# Altium schematic symbol library test.SchLib: 309 symbols (part 5 of 9)
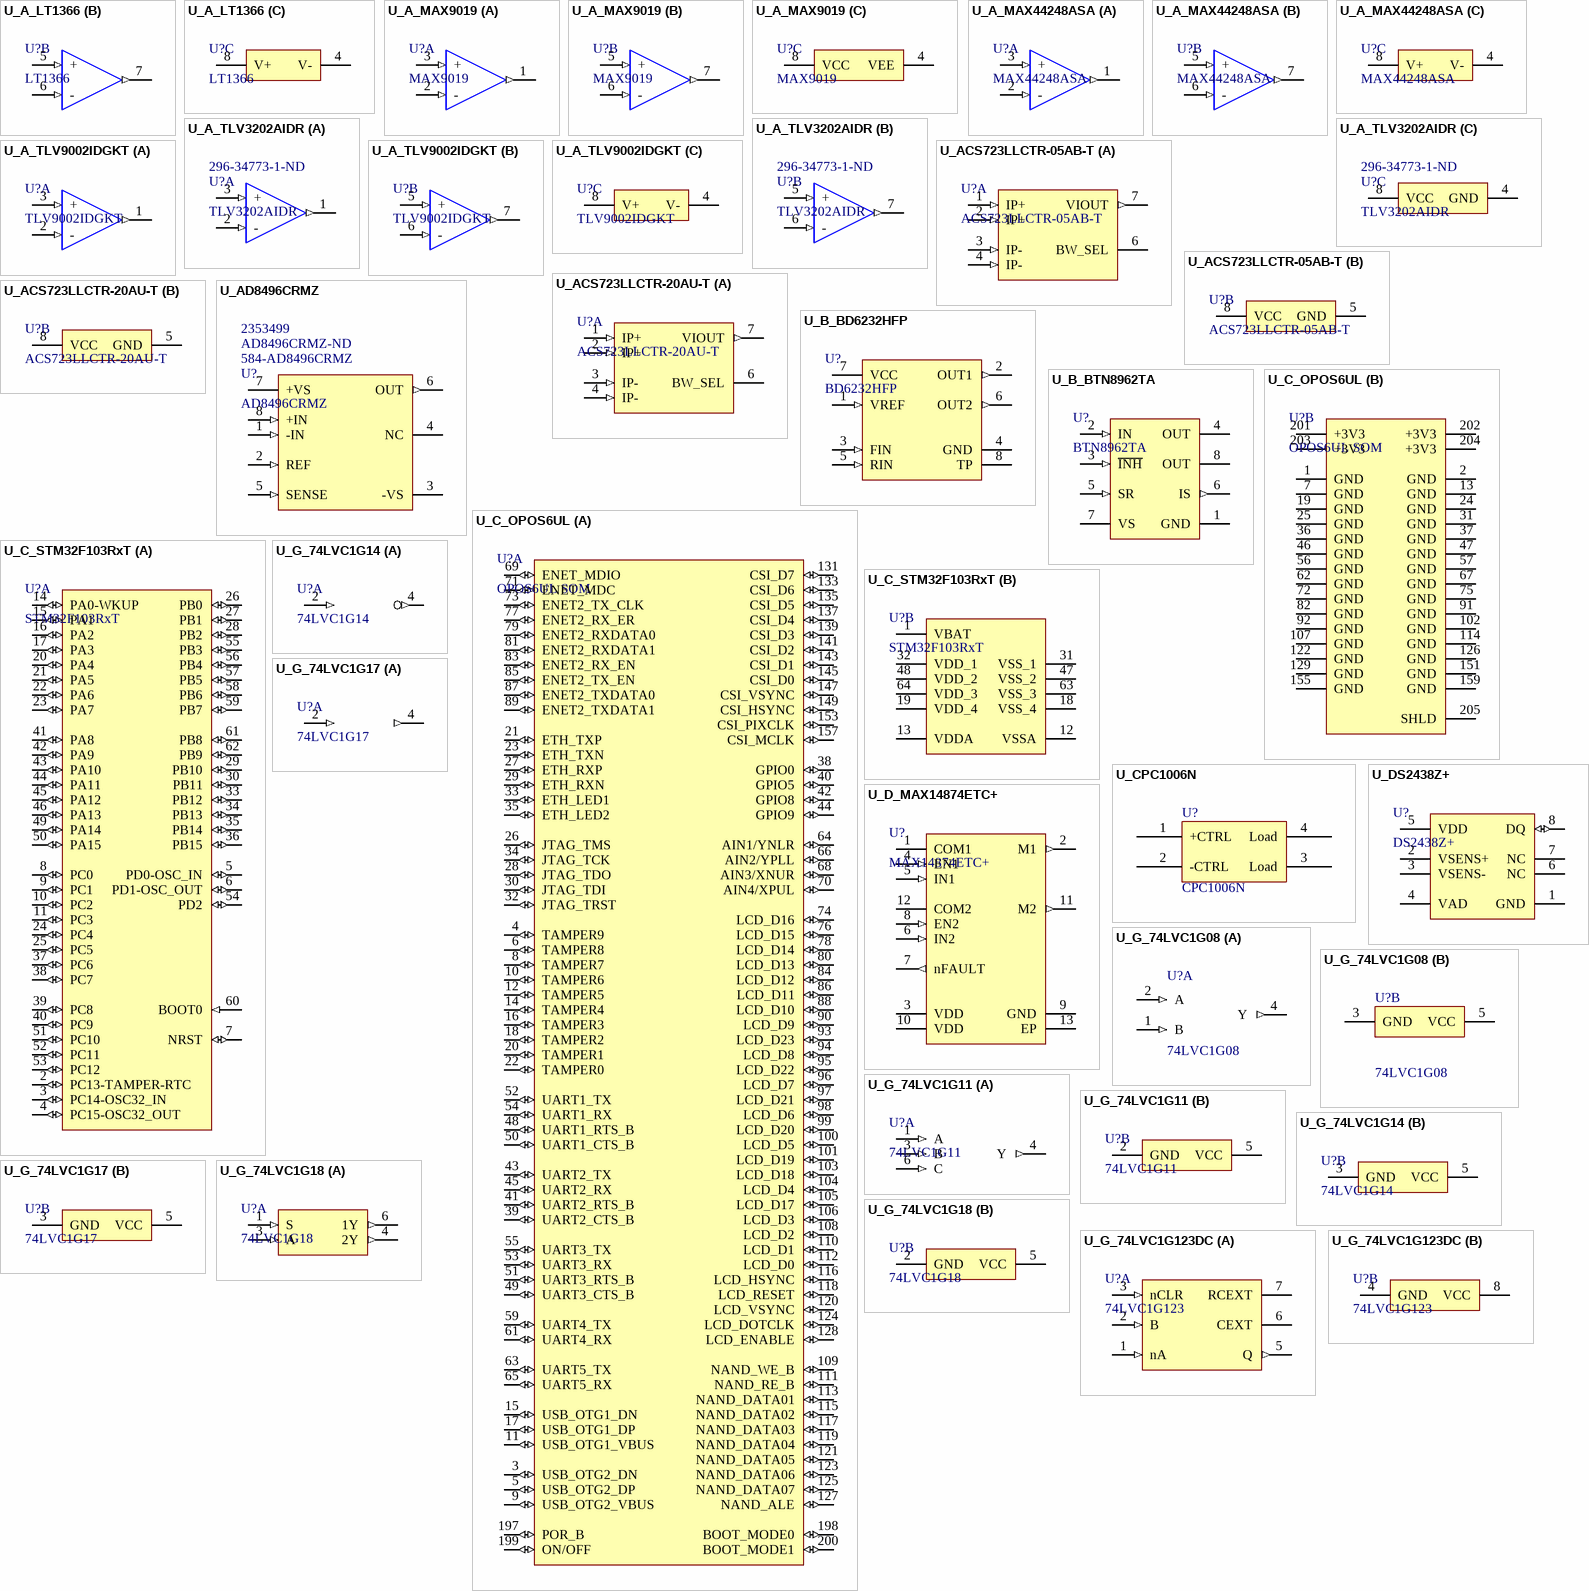
[diagram p12: symbols U_A_LT1366 to U_G_74LVC1G123DC]

## U_A_MAX9019
designator U?, comment MAX9019
IC COMPARATOR DUAL SOT23-8 MAX9019; Manufacturer: Maxim; Manufacturer Part Number: MAX9019EKA+T; Supplier 1: Digi-Key; Supplier Part Number 1: MAX9019EKA+TCT-ND; Case/Package: SOT-23-8; ComponentLink1URL: https://datasheet.ciiva.com/4463/max9015-max9020-109477-4463522.pdf; ComponentLink1Description: https://datasheet.ciiva.com/4463/max9015-max9020-109477-4463522.pdf; ComponentLink2URL: https://datasheet.ciiva.com/30481/0900766b81253439-30481618.pdf; ComponentLink2Description: https://datasheet.ciiva.com/30481/0900766b81253439-30481618.pdf; ComponentLink3URL: https://datasheet.ciiva.com/1828/max9015-max9020-1828112.pdf; ComponentLink3Description: https://datasheet.ciiva.com/1828/max9015-max9020-1828112.pdf; ComponentLink4URL: https://datasheet.ciiva.com/26859/max9019eka-t-26859996.pdf; ComponentLink4Description: https://datasheet.ciiva.com/26859/max9019eka-t-26859996.pdf; ComponentLink5URL: https://datasheet.ciiva.com/1828/max9015-max9020-1828111.pdf; ComponentLink5Description: https://datasheet.ciiva.com/1828/max9015-max9020-1828111.pdf; ComponentLink6URL: https://datasheet.ciiva.com/2970/max9015-max9020-2970974.pdf; ComponentLink6Description: https://datasheet.ciiva.com/2970/max9015-max9020-2970974.pdf; ComponentLink7URL: https://datasheet.ciiva.com/1828/max9015-max9020-1828113.pdf; ComponentLink7Description: https://datasheet.ciiva.com/1828/max9015-max9020-1828113.pdf; ComponentLink8URL: https://datasheet.ciiva.com/17397/max9015-max9020-17397095.pdf; ComponentLink8Description: https://datasheet.ciiva.com/17397/max9015-max9020-17397095.pdf
footprint SOT23-8 (TSOP, 8-Leads, Body 2.90x1.63mm, Pitch 0.65mm, IPC Medium Density)
part A pins: 1 (out), 2 - (in), 3 + (in)
part B pins: 5 + (in), 6 - (in), 7 1 (out)
part C pins: 4 VEE (power), 8 VCC (power)

## U_A_MAX44248ASA
designator U?, comment MAX44248ASA
IC OPAMP GP 1MHZ RRO 8SOIC; Manufacturer: Maxim; Manufacturer Part Number: MAX44248ASA+T; Common Mode Rejection Ratio: 126dB; Min Supply Voltage: 2.7V; Max Supply Voltage: 36V; Voltage Gain: 150dB; Number of Channels: 2; Output Current: 40mA; Slew Rate: 0.7V/µs; Nominal Supply Current: 90uA; Min Dual Supply Voltage: 1.35V; Max Dual Supply Voltage: 18V; Input Offset Voltage (Vos): 2uV; Input Bias Current: 150pA; Supplier Part Number 2: MAX44248ASA+TCT-ND; Stock 1: 2242; Pricing 1: 1=3.47000, 10=3.11300, 25=2.94320, 100=2.55080, 250=2.42000, 500=2.17144, 1000=1.83134 (USD); RoHS: Yes; Mount: Surface Mount; Case/Package: SOIC; Number of Pins: 8; Contact Plating: Tin; Min Operating Temperature: -40°C; Max Operating Temperature: 125°C; Gain Bandwidth Product: 1MHz; Packaging: Tape and Reel; Package Quantity: 2500; Operating Supply Current: 90uA; Number of Circuits: 2; Output Current per Channel: 40mA; Operating Supply Voltage: 18V; Radiation Hardening: No; ComponentLink1URL: https://datasheet.ciiva.com/13061/max44248-218146-13061234.pdf?src-supplier=Mouser; ComponentLink1Description: https://datasheet.ciiva.com/13061/max44248-218146-13061234.pdf?src-supplier=Mouser; Supplier 2: Digi-Key; Supplier 1: Safematic
footprint SO8 (SOIC8, SO8, PG-DSO8-44, R-PDSO8-G8)
part A pins: 1 (out), 2 - (in), 3 + (in)
part B pins: 5 + (in), 6 - (in), 7 1 (out)
part C pins: 4 V- (power), 8 V+ (power)

## U_A_TLV3202AIDR
designator U?, comment TLV3202AIDR  Supplier Part Number 1: 296-34773-1-ND
IC COMPARATOR RRI DUAL 8SOIC; Manufacturer: Texas Instruments; Max Supply Voltage: 5.5V; Min Supply Voltage: 2.7V; Number of Elements: 2; Propagation Delay: 50ns; Input Bias Current: 50pA; Input Offset Voltage (Vos): 5mV; Response Time: 0.047us; Quiescent Current: 50uA; Common Mode Rejection Ratio: 70dB; Max Supply Current: 40uA; Hysteresis: 1.2mV; Power Supply Rejection Ratio (PSRR): 85dB; Max Power Dissipation: 100mW; Tolerance: 1%; Manufacturer Part Number: TLV3202AIDR; Stock 1: 20111; Pricing 1: 1 = 1.52000, 10 = 1.36500, 100 = 1.09700, 500 = 0.90126, 1000 = 0.74675 (USD); RoHS: Yes; Mount: Surface Mount; Case/Package: SOIC; Number of Pins: 8; Contact Plating: Gold; Min Operating Temperature: -40°C; Max Operating Temperature: 125°C; Packaging: Tape and Reel; Package Quantity: 2500; Number of Channels: 2; Type: General Purpose; Nominal Supply Current: 50uA; Max Input Current: 50pA; Radiation Hardening: No; Lead Free: Lead Free; ComponentLink1URL: https://datasheet.ciiva.com/6624/tlv3202-6624219.pdf?src-supplier=Digi-Key; ComponentLink1Description: https://datasheet.ciiva.com/6624/tlv3202-6624219.pdf?src-supplier=Digi-Key; ComponentLink2URL: https://datasheet.ciiva.com/14391/tlv3202-14391915.pdf?src-supplier=Avnet; ComponentLink2Description: https://datasheet.ciiva.com/14391/tlv3202-14391915.pdf?src-supplier=Avnet; ComponentLink3URL: https://datasheet.ciiva.com/6624/tlv3202-6624221.pdf?src-supplier=Digi-Key; ComponentLink3Description: https://datasheet.ciiva.com/6624/tlv3202-6624221.pdf?src-supplier=Digi-Key; Manufacturer 2: Vishay BCcomponents; Manufacturer Part Number 2: NTCALUG02A103F800; Stock 2: 1556; Pricing 2: 1=2,55000, 5=2,41600, 10=2,07000, 25=1,65600, 50=1,51800, 100=1,38000, 500=1,20750, 1000=1,06950, 5000=1,00050 (USD); ComponentLink4URL: http://www.vishay.com/docs/48301/_capabilities_and_options_ntcalug_vmn-ms7447.pdf?src-supplier=Digi-Key; ComponentLink4Description: http://www.vishay.com/docs/48301/_capabilities_and_options_ntcalug_vmn-ms7447.pdf?src-supplier=Digi-Key; Supplier 1: Digi-Key
footprint SO8 (SOIC8, SO8, PG-DSO8-44, R-PDSO8-G8)
part A pins: 1 (out), 2 - (in), 3 + (in)
part B pins: 5 + (in), 6 - (in), 7 1 (out)
part C pins: 4 GND (power), 8 VCC (power)

## U_A_TLV9002IDGKT
designator U?, comment TLV9002IDGKT
TLV9002 Low-Power, Rail-to-Rail In and Out, 1-MHz Operational Amplifier; Manufacturer: Texas Instruments; Supplier 1: Digi-Key; Supplier Part Number 1: 296-49509-1-ND; Manufacturer Part Number: TLV9002IDGKT; ComponentLink1Description: http://www.ti.com/lit/ds/symlink/tlv9002.pdf; ComponentLink1URL: http://www.ti.com/lit/ds/symlink/tlv9002.pdf
footprint DGK (S-PDSO-G8) (TSOP, 8-Leads, Body 3.00x3.00mm, Pitch 0.65mm, IPC Medium Density)
part A pins: 1 (out), 2 - (in), 3 + (in)
part B pins: 5 + (in), 6 - (in), 7 1 (out)
part C pins: 4 V- (power), 8 V+ (power)

## U_ACS723LLCTR-05AB-T
designator U?, comment ACS723LLCTR-05AB-T
High Accuracy, Galvanically Isolated Current Sensor IC With Small Footprint SOIC8 Package; Manufacturer: Allegro MicroSystems; Number of Channels: 1; Frequency: 80kHz; Response Time: 5us; Max Supply Current: 14mA; Polarity: Bidirectional; Linearity: 1%; Accuracy: 3%; Current Sensing: 5A; Sensitivity: 400mV/A; Manufacturer Part Number: ACS723LLCTR-05AB-T; RoHS: Yes; Category: Current Sensors; Stock 1: 690; Pricing 1: 1=4.46000, 5=3.94000, 10=3.47900, 25=2.82280, 50=2.49480, 100=2.42900, 500=2.03516, 1000=1.90385 (USD); Mount: Surface Mount; Case/Package: SOIC; Number of Pins: 8; Min Operating Temperature: -40°C; Max Operating Temperature: 150°C; Packaging: Tape and Reel; RoHS Compliant: Yes; ComponentLink1URL: http://www.farnell.com/datasheets/2724286.pdf?src-supplier=Farnell; ComponentLink1Description: http://www.farnell.com/datasheets/2724286.pdf?src-supplier=Farnell; ComponentLink2URL: http://www.farnell.com/datasheets/2724286.pdf?src-supplier=Newark; ComponentLink2Description: http://www.farnell.com/datasheets/2724286.pdf?src-supplier=Newark; ComponentLink3URL: http://www.allegromicro.com/~/media/Files/Datasheets/ACS723-Datasheet.ashx?src-supplier=Digi-Key; ComponentLink3Description: http://www.allegromicro.com/~/media/Files/Datasheets/ACS723-Datasheet.ashx?src-supplier=Digi-Key; ComponentLink4URL: https://www.allegromicro.com/~/media/Files/Datasheets/ACS723-Datasheet.ashx?src-supplier=Digi-Key; ComponentLink4Description: https://www.allegromicro.com/~/media/Files/Datasheets/ACS723-Datasheet.ashx?src-supplier=Digi-Key; Supplier 1: Digi-Key; Supplier 3: Farnell; Pricing 3: 1=3.38000, 10=2.98000, 25=2.42000, 50=2.15000, 100=2.08000, 250=1.92000, 500=1.75000, 1000=1.63000 (GBP); Pricing 2: 2=5.91400, 20=4.62000, 100=3.22400, 200=3.06000, 500=2.69000 (USD); Supplier 2: RSComponents; Stock 2: 690; Supplier Part Number 1: 620-1641-1-ND; Supplier Part Number 3: 2991650; Supplier Part Number 2: 8660767
footprint SO8 (SOIC8, SO8, PG-DSO8-44, R-PDSO8-G8)
part A pins: 1 IP+ (in), 2 IP+ (in), 3 IP- (in), 4 IP- (in), 6 BW_SEL, 7 VIOUT (out)
part B pins: 5 GND (power), 8 VCC (power)

## U_ACS723LLCTR-20AU-T
designator U?, comment ACS723LLCTR-20AU-T
SENSOR CURRENT HALL 20A DC; Manufacturer: Allegro MicroSystems; Number of Channels: 1; Frequency: 80kHz; Response Time: 5us; Max Supply Current: 14mA; Polarity: Unidirectional; Linearity: 1%; Accuracy: 3%; Sensitivity: 200mV/A; Manufacturer Part Number: ACS723LLCTR-20AU-T; Stock 1: 20853; Pricing 1: 1=5.27000, 5=4.65400, 10=4.11000, 25=3.33480, 50=2.94700, 100=2.86940, 500=2.40406, 1000=2.24895 (USD); RoHS: Yes; Mount: Surface Mount; Case/Package: SOIC; Number of Pins: 8; Min Operating Temperature: -40°C; Max Operating Temperature: 150°C; Packaging: Tape and Reel; Current Sensing: 20A; ComponentLink1URL: http://www.allegromicro.com/~/media/Files/Datasheets/ACS723-Datasheet.ashx?src-supplier=Digi-Key; ComponentLink1Description: http://www.allegromicro.com/~/media/Files/Datasheets/ACS723-Datasheet.ashx?src-supplier=Digi-Key; ComponentLink2URL: https://www.allegromicro.com/~/media/Files/Datasheets/ACS723-Datasheet.ashx?src-supplier=Digi-Key; ComponentLink2Description: https://www.allegromicro.com/~/media/Files/Datasheets/ACS723-Datasheet.ashx?src-supplier=Digi-Key; Supplier 1: Digi-Key; Supplier 2: Farnell; Supplier Part Number 1: 620-1645-1-ND; Supplier Part Number 2: 3224918
footprint SO8 (SOIC8, SO8, PG-DSO8-44, R-PDSO8-G8)
part A pins: 1 IP+ (in), 2 IP+ (in), 3 IP- (in), 4 IP- (in), 6 BW_SEL, 7 VIOUT (out)
part B pins: 5 GND (power), 8 VCC (power)

## U_AD8496CRMZ
designator U?, comment AD8496CRMZ  Supplier Part Number 1: 584-AD8496CRMZ  Supplier Part Number 2: AD8496CRMZ-ND  Supplier Part Number 3: 2353499
ANALOG DEVICES - AD8496CRMZ - TEMPERATURE SENSOR, 1.5DEG CEL, MSOP-8; Max Supply Voltage: 36V; Min Supply Voltage: 2.7V; Nominal Supply Current: 180uA; Gain Bandwidth Product: 31kHz; Max Supply Current: 250uA; Dual Supply Voltage: 18V; Manufacturer: Analog Devices; Manufacturer Part Number: AD8496CRMZ; RoHS: Yes; Category: Amplifiers - Op Amps, Buffer, Instrumentation; Pricing 1: 1=10.51000, 10=9.50000, 25=9.05000, 50=8.76000, 100=7.51000, 250=6.85000 (USD); Case/Package: MSOP; Number of Pins: 8; Contact Plating: Tin,Matte; Min Operating Temperature: -40°C; Max Operating Temperature: 125°C; Output Type: Analog; Package Quantity: 50; Packaging: Rail/Tube; Operating Supply Current: 180uA; Interface: Analog; Length: 3.2mm; Height: 0.95mm; Width: 3.2mm; REACH SVHC: No SVHC; Lead Free: Contains Lead; ComponentLink1URL: https://datasheet.ciiva.com/22726/1503739-22726214.pdf?src-supplier=Element14; ComponentLink1Description: https://datasheet.ciiva.com/22726/1503739-22726214.pdf?src-supplier=Element14; ComponentLink2URL: https://datasheet.ciiva.com/1781/ad8494-8495-8496-8497-1781911.pdf?src-supplier=Digi-Key; ComponentLink2Description: https://datasheet.ciiva.com/1781/ad8494-8495-8496-8497-1781911.pdf?src-supplier=Digi-Key; ComponentLink3URL: https://datasheet.ciiva.com/3275/ad8494-8495-8496-8497-3275287.pdf?src-supplier=Avnet; ComponentLink3Description: https://datasheet.ciiva.com/3275/ad8494-8495-8496-8497-3275287.pdf?src-supplier=Avnet; ComponentLink4URL: https://datasheet.ciiva.com/16636/ad8494-8495-8496-8497-16636329.pdf?src-supplier=Avnet+Europe; ComponentLink4Description: https://datasheet.ciiva.com/16636/ad8494-8495-8496-8497-16636329.pdf?src-supplier=Avnet+Europe; ComponentLink5URL: https://datasheet.ciiva.com/48706/001248565-da-01-en-thermocouple-ampli-ad8496crmz-msop-8-adi-48706053.pdf?src-supplier=Conrad; ComponentLink5Description: https://datasheet.ciiva.com/48706/001248565-da-01-en-thermocouple-ampli-ad8496crmz-msop-8-adi-48706053.pdf?src-supplier=Conrad; Supplier 1: Mouser; Supplier 2: Digi-Key; Supplier 3: Farnell
footprint MSOP8 (S-PDSO-G8, DGK,)
pins: 1 -IN (in), 2 REF (in), 3 -VS, 4 NC, 5 SENSE (in), 6 OUT (out), 7 +VS, 8 +IN (in)

## U_B_BD6232HFP
designator U?, comment BD6232HFP
ROHM   BD6232HFP-TR   H-BRIDGE DRIVER 36V MAX, 2.0 A, HRP7; Supplier 1: Digi-Key; Supplier Part Number 1: BD6232HFPCT-ND; Manufacturer: Rohm; Manufacturer Part Number: BD6232HFP-TR; Case/Package: TO-263-8; ComponentLink1URL: https://datasheet.ciiva.com/4896/bd623x-e-209363-4896082.pdf; ComponentLink1Description: https://datasheet.ciiva.com/4896/bd623x-e-209363-4896082.pdf; ComponentLink2URL: https://datasheet.ciiva.com/1151/1645390-1151665.pdf; ComponentLink2Description: https://datasheet.ciiva.com/1151/1645390-1151665.pdf; ComponentLink3URL: https://datasheet.ciiva.com/26881/bd6232hfp-tr-26881240.pdf; ComponentLink3Description: https://datasheet.ciiva.com/26881/bd6232hfp-tr-26881240.pdf; ComponentLink4URL: https://datasheet.ciiva.com/22732/1645390-22732778.pdf; ComponentLink4Description: https://datasheet.ciiva.com/22732/1645390-22732778.pdf; ComponentLink5URL: https://datasheet.ciiva.com/1148/1645390-1148622.pdf; ComponentLink5Description: https://datasheet.ciiva.com/1148/1645390-1148622.pdf; ComponentLink6URL: https://datasheet.ciiva.com/1959/bd623x-e-1959626.pdf; ComponentLink6Description: https://datasheet.ciiva.com/1959/bd623x-e-1959626.pdf; ComponentLink7URL: https://datasheet.ciiva.com/1959/bd623x-e-1959624.pdf; ComponentLink7Description: https://datasheet.ciiva.com/1959/bd623x-e-1959624.pdf; ComponentLink8URL: https://datasheet.ciiva.com/1959/bd623x-e-1959625.pdf; ComponentLink8Description: https://datasheet.ciiva.com/1959/bd623x-e-1959625.pdf
footprint HRP7
pins: 1 VREF (in), 2 OUT1 (out), 3 FIN (in), 4 GND (power), 5 RIN (in), 6 OUT2 (out), 7 VCC (power), 8 TP (power)

## U_B_BTN8962TA
designator U?, comment BTN8962TA
High Current PN Half Bridge, 5.5 to 40 V, 7 uA Iq, PG-TO263-7, Reel, Green; Manufacturer: Infineon; Manufacturer Part Number: BTN8962TAAUMA1; ComponentLink1Description: Manufacturer URL; ComponentLink1URL: http://www.infineon.com/; ComponentLink2Description: Datasheet; ComponentLink2URL: http://www.infineon.com/dgdl/BTN8962TA-Data-Sheet-rev10-Infineon.pdf?folderId=db3a30431ff98815012060aedcd46179&fileId=db3a30433fa9412f013fbe2d247a7bf5; ComponentLink3Description: Package Specification; ComponentLink3URL: http://www.infineon.com/dgdl/BTN8982TA-Data-Sheet-rev10-Infineon.pdf?folderId=db3a30431ff98815012060aedcd46179&fileId=db3a30433fa9412f013fbe32289b7c17&ack=t; Supplier 1: Digi-Key; Supplier Part Number 1: BTN8962TAAUMA1INCT-ND; Case/Package: TO-263-8; ComponentLink4URL: https://datasheet.ciiva.com/29901/infineon-bts8962ta-ds-v01-00-en-29901974.pdf; ComponentLink4Description: https://datasheet.ciiva.com/29901/infineon-bts8962ta-ds-v01-00-en-29901974.pdf; ComponentLink5URL: https://datasheet.ciiva.com/24115/btn8962ta-data-sheet-rev10-infineon-269695-24115813.pdf; ComponentLink5Description: https://datasheet.ciiva.com/24115/btn8962ta-data-sheet-rev10-infineon-269695-24115813.pdf; ComponentLink6URL: https://datasheet.ciiva.com/29599/infineon-btn8962ta-ds-v01-00-en-29599865.pdf; ComponentLink6Description: https://datasheet.ciiva.com/29599/infineon-btn8962ta-ds-v01-00-en-29599865.pdf; ComponentLink7URL: https://datasheet.ciiva.com/29599/infineon-btn8962ta-ds-v01-00-en-29599864.pdf; ComponentLink7Description: https://datasheet.ciiva.com/29599/infineon-btn8962ta-ds-v01-00-en-29599864.pdf; ComponentLink8URL: https://datasheet.ciiva.com/29599/infineon-btn8962ta-ds-v01-00-en-29599863.pdf; ComponentLink8Description: https://datasheet.ciiva.com/29599/infineon-btn8962ta-ds-v01-00-en-29599863.pdf
footprint INF-PG-TO263-7-1_N (DPAK, 8-Leads, Body 10x9.25mm, Pitch 1.27mm, IPC Medium Density)
footprint INF-PG-TO263-7-1_L (DPAK, 8-Leads, Body 10x9.25mm, Pitch 1.27mm, IPC High Density)
footprint INF-PG-TO263-7-1_M (DPAK, 8-Leads, Body 10x9.25mm, Pitch 1.27mm, IPC Low Density)
pins: 1 GND (power) "Ground", 2 IN (in) "Input, Defines whether high- or lowside switch is activated", 3 ~{INH} (in) "Inhibit, When set to low device goes in sleep mode", 4 OUT (power) "Power output of the bridge", 5 SR (in) "Slew Rate, The slew rate of the power switches can be adjusted by connecting a resistor between SR and GND", 6 IS (out) "Current Sense and Diagnostics", 7 VS (power) "Supply", 8 OUT (power) "Power output of the bridge"

## U_C_OPOS6UL
designator U?, comment OPOS6UL SOM
Manufacturer: TE Connectivity; Manufacturer Part Number: 2-2013289-1; Supplier 1: Digi-Key; Supplier Part Number 1: A116236CT-ND; ComponentLink1URL: https://datasheet.ciiva.com/11746/0900766b80f911ad-11746307.pdf; ComponentLink1Description: https://datasheet.ciiva.com/11746/0900766b80f911ad-11746307.pdf; ComponentLink2URL: https://datasheet.ciiva.com/30062/eng-ds-6-1773454-7-0509-30062934.pdf; ComponentLink2Description: https://datasheet.ciiva.com/30062/eng-ds-6-1773454-7-0509-30062934.pdf; ComponentLink3URL: https://datasheet.ciiva.com/15171/getdatasheetpartid-177737-15171703.pdf; ComponentLink3Description: https://datasheet.ciiva.com/15171/getdatasheetpartid-177737-15171703.pdf; ComponentLink4URL: https://datasheet.ciiva.com/16469/eng-ds-6-1773454-7-0511-16469352.pdf; ComponentLink4Description: https://datasheet.ciiva.com/16469/eng-ds-6-1773454-7-0511-16469352.pdf; ComponentLink5URL: https://datasheet.ciiva.com/3136/eng-ds-6-1773454-7-0511-3136377.pdf; ComponentLink5Description: https://datasheet.ciiva.com/3136/eng-ds-6-1773454-7-0511-3136377.pdf; ComponentLink6URL: https://datasheet.ciiva.com/16651/eng-ds-6-1773454-7-0511-16651402.pdf; ComponentLink6Description: https://datasheet.ciiva.com/16651/eng-ds-6-1773454-7-0511-16651402.pdf; ComponentLink7URL: https://datasheet.ciiva.com/16311/2-2013289-1-16311548.pdf; ComponentLink7Description: https://datasheet.ciiva.com/16311/2-2013289-1-16311548.pdf
footprint SODIMM204
part A pins: 3 USB_OTG2_DN (io), 4 TAMPER9 (io), 5 USB_OTG2_DP (io), 6 TAMPER8 (io), 8 TAMPER7 (io), 9 USB_OTG2_VBUS (io), 10 TAMPER6 (io), 11 USB_OTG1_VBUS (io), 12 TAMPER5 (io), 14 TAMPER4 (io), 15 USB_OTG1_DN (io), 16 TAMPER3 (io), 17 USB_OTG1_DP (io), 18 TAMPER2 (io), 20 TAMPER1 (io), 21 ETH_TXP (io), 22 TAMPER0 (io), 23 ETH_TXN (io), 26 JTAG_TMS (io), 27 ETH_RXP (io), 28 JTAG_TDO (io), 29 ETH_RXN (io), 30 JTAG_TDI (io), 32 JTAG_TRST (io), 33 ETH_LED1 (io), 34 JTAG_TCK (io), 35 ETH_LED2 (io), 38 GPIO0 (io), 39 UART2_CTS_B (io), 40 GPIO5 (io), 41 UART2_RTS_B (io), 42 GPIO8 (io), 43 UART2_TX (io), 44 GPIO9 (io), 45 UART2_RX (io), 48 UART1_RTS_B (io), 49 UART3_CTS_B (io), 50 UART1_CTS_B (io), 51 UART3_RTS_B (io), 52 UART1_TX (io), 53 UART3_RX (io), 54 UART1_RX (io), 55 UART3_TX (io), 59 UART4_TX (io), 61 UART4_RX (io), 63 UART5_TX (io), 64 AIN1/YNLR (io), 65 UART5_RX (io), 66 AIN2/YPLL (io), 68 AIN3/XNUR (io), 69 ENET_MDIO (io), 70 AIN4/XPUL (io), 71 ENET_MDC (io), 73 ENET2_TX_CLK (io), 74 LCD_D16 (io), 76 LCD_D15 (io), 77 ENET2_RX_ER (io), 78 LCD_D14 (io), 79 ENET2_RXDATA0 (io), 80 LCD_D13 (io), 81 ENET2_RXDATA1 (io), 83 ENET2_RX_EN (io), 84 LCD_D12 (io), 85 ENET2_TX_EN (io), 86 LCD_D11 (io), 87 ENET2_TXDATA0 (io), 88 LCD_D10 (io), 89 ENET2_TXDATA1 (io), 90 LCD_D9 (io), 93 LCD_D23 (io), 94 LCD_D8 (io), 95 LCD_D22 (io), 96 LCD_D7 (io), 97 LCD_D21 (io), 98 LCD_D6 (io), 99 LCD_D20 (io), 100 LCD_D5 (io), 101 LCD_D19 (io), 103 LCD_D18 (io), 104 LCD_D4 (io), 105 LCD_D17 (io), 106 LCD_D3 (io), 108 LCD_D2 (io), 109 NAND_WE_B (io), 110 LCD_D1 (io), 111 NAND_RE_B (io), 112 LCD_D0 (io), 113 NAND_DATA01 (io), 115 NAND_DATA02 (io), 116 LCD_HSYNC (io), 117 NAND_DATA03 (io), 118 LCD_RESET (io), 119 NAND_DATA04 (io), 120 LCD_VSYNC (io), 121 NAND_DATA05 (io), 123 NAND_DATA06 (io), 124 LCD_DOTCLK (io), 125 NAND_DATA07 (io), 127 NAND_ALE (io), 128 LCD_ENABLE (io), 131 CSI_D7 (io), 133 CSI_D6 (io), 135 CSI_D5 (io), 137 CSI_D4 (io), 139 CSI_D3 (io), 141 CSI_D2 (io), 143 CSI_D1 (io), 145 CSI_D0 (io), 147 CSI_VSYNC (io), 149 CSI_HSYNC (io), 153 CSI_PIXCLK (io), 157 CSI_MCLK (io), 197 POR_B (io), 198 BOOT_MODE0 (io), 199 ON/OFF (io), 200 BOOT_MODE1 (io)
part B pins: 1 GND (power), 2 GND (power), 7 GND (power), 13 GND (power), 19 GND (power), 24 GND (power), 25 GND (power), 31 GND (power), 36 GND (power), 37 GND (power), 46 GND (power), 47 GND (power), 56 GND (power), 57 GND (power), 62 GND (power), 67 GND (power), 72 GND (power), 75 GND (power), 82 GND (power), 91 GND (power), 92 GND (power), 102 GND (power), 107 GND (power), 114 GND (power), 122 GND (power), 126 GND (power), 129 GND (power), 151 GND (power), 155 GND (power), 159 GND (power), 201 +3V3 (power), 202 +3V3 (power), 203 +3V3 (power), 204 +3V3 (power), 205 SHLD (power)

## U_C_STM32F103RxT
designator U?, comment STM32F103RxT
ARM Cortex-M3 32-bit MCU, 51 I/Os, 64-pin LQFP; Manufacturer Part Number: STM32F103RET6; Manufacturer: STMicroelectronics; A/D Converter: 3x12-bit (16 Channel); D/A Converter: 2x12-bit (2 Channel); FLASH Size (Prog) (kB): 512; I/Os (High Current): 51; Internal RAM Size (kB): 64; Operating Frequency(F) (Processor speed) (MHz): 72; Packing: Tray; Supply Voltage(Vcc) min (V): 2; DatasheetVersion: Rev. 8; PackageVersion: Rev. 4, 06/2013; PackageReference: LQFP64; PackageDescription: 64-Pin Low Profile Quad Flat Package, 10 x 10 mm Body, 0.5 mm Pitch; Supplier 1: Digi-Key; Supplier Part Number 1: 497-6444-ND; Supplier 2: Farnell; Supplier Part Number 2: 1624138; Supplier 3: Newark; Supplier Part Number 3: 01P4101; Supplier 4: Newark; Supplier Part Number 4: 57P1231; Supplier 5: Mouser; Supplier Part Number 5: 511-STM32F103RET6; Core: ARM Cortex-M3; Mounting Technology: Surface Mount; ComponentLink1Description: Manufacturer URL; ComponentLink1URL: http://www.st.com/web/en/home.html; ComponentLink2Description: Datasheet; ComponentLink2URL: http://www.st.com/st-web-ui/static/active/en/resource/technical/document/datasheet/CD00191185.pdf; ComponentLink3Description: Package Specification; ComponentLink3URL: http://www.st.com/st-web-ui/static/active/en/resource/technical/document/datasheet/DM00037051.pdf
footprint STM-LQFP64_N (Thin QFP, 64-Leads, Body 10x10mm, Pitch 0.5mm, IPC Medium Density)
footprint STM-LQFP64_L (Thin QFP, 64-Leads, Body 10x10mm, Pitch 0.5mm, IPC High Density)
footprint STM-LQFP64_M (Thin QFP, 64-Leads, Body 10x10mm, Pitch 0.5mm, IPC Low Density)
footprint STM-LQFP64_V (Thin QFP, 64-Leads, Body 10x10mm, Pitch 0.5mm, ST Recommended)
part A pins: 2 PC13-TAMPER-RTC (io) "PC13-TAMPER-RTC/PC13/TAMPER-RTC", 3 PC14-OSC32_IN (io) "PC14-OSC32_IN/PC14/OSC32_IN", 4 PC15-OSC32_OUT (io) "PC15-OSC32_OUT/PC15/OSC32_OUT", 5 PD0-OSC_IN (io) "PD0/OSC_IN/CAN_RX", 6 PD1-OSC_OUT (io) "PD1/OSC_OUT/CAN_TX", 7 NRST (io), 8 PC0 (io) "PC0/ADC123_IN10", 9 PC1 (io) "PC1/ADC123_IN11", 10 PC2 (io) "PC2/ADC123_IN12", 11 PC3 (io) "PC3/ADC123_IN13", 14 PA0-WKUP (io) "PA0-WKUP/PA0/WKUP/USART2_CTS/ADC123_IN0/TIM2_CH1_ETR/TIM5_CH1/TIM8_ETR", 15 PA1 (io) "PA1/USART2_RTS/ADC123_IN1/TIM5_CH2/TIM2_CH2", 16 PA2 (io) "PA2/USART2_TX/TIM5_CH3/ADC123_IN2/TIM2_CH3", 17 PA3 (io) "PA3/USART2_RX/TIM5_CH4/ADC123_IN3/TIM2_CH4", 20 PA4 (io) "PA4/SPI1_NSS/USART2_CK/DAC_OUT1/ADC12_IN4", 21 PA5 (io) "PA5/SPI1_SCK/DAC_OUT2/ADC12_IN5", 22 PA6 (io) "PA6/SPI1_MISO/TIM8_BKIN/ADC12_IN6/TIM3_CH1/TIM1_BKIN", 23 PA7 (io) "PA7/SPI1_MOSI/TIM8_CH1N/ADC12_IN7/TIM3_CH2/TIM1_CH1N", 24 PC4 (io) "PC4/ADC12_IN14", 25 PC5 (io) "PC5/ADC12_IN15", 26 PB0 (io) "PB0/ADC12_IN8/TIM3_CH3/TIM8_CH2N/TIM1_CH2N", 27 PB1 (io) "PB1/ADC12_IN9/TIM3_CH4/TIM8_CH3N/TIM1_CH3N", 28 PB2 (io) "PB2/BOOT1", 29 PB10 (io) "PB10/I2C2_SCL/USART3_TX/TIM2_CH3", 30 PB11 (io) "PB11/I2C2_SDA/USART3_RX/TIM2_CH4", 33 PB12 (io) "PB12/SPI2_NSS/I2S2_WS/I2C2_SMBA/USART3_CK/TIM1_BKIN", 34 PB13 (io) "PB13/SPI2_SCK/I2S2_CK/USART3_CTS/TIM1_CH1N", 35 PB14 (io) "PB14/SPI2_MISO/TIM1_CH2N/USART3_RTS", 36 PB15 (io) "PB15/SPI2_MOSI/I2S2_SD/TIM1_CH3N", 37 PC6 (io) "PC6/I2S2_MCK/TIM8_CH1/SDIO_D6/TIM3_CH1", 38 PC7 (io) "PC7/I2S3_MCK/TIM8_CH2/SDIO_D7/TIM3_CH2", 39 PC8 (io) "PC8/TIM8_CH3/SDIO_D0/TIM3_CH3", 40 PC9 (io) "PC9/TIM8_CH4/SDIO_D1/TIM3_CH4", 41 PA8 (io) "PA8/USART1_CK/TIM1_CH1/MCO", 42 PA9 (io) "PA9/USART1_TX/TIM1_CH2", 43 PA10 (io) "PA10/USART1_RX/TIM1_CH3", 44 PA11 (io) "PA11/USART1_CTS/USBDM/CAN_RX/TIM1_CH4", 45 PA12 (io) "PA12/USART1_RTS/USBDP/CAN_TX/TIM1_ETR", 46 PA13 (io) "PA13/JTMS-SWDIO", 49 PA14 (io) "PA14/JTCK-SWCLK", 50 PA15 (io) "PA15/JTDI/SPI3_NSS/I2S3_WS/TIM2_CH1_ETR/SPI1_NSS", 51 PC10 (io) "PC10/UART4_TX/SDIO_D2/USART3_TX", 52 PC11 (io) "PC11/UART4_RX/SDIO_D3/USART3_RX", 53 PC12 (io) "PC12/UART5_TX/SDIO_CK/USART3_CK", 54 PD2 (io) "PD2/TIM3_ETR/UART5_RX/SDIO_CMD", 55 PB3 (io) "PB3/JTDO/SPI3_SCK/I2S3_CK/TRACESWO/TIM2_CH2/SPI1_SCK", 56 PB4 (io) "PB4/NJTRST/SPI3_MISO/TIM3_CH1/SPI1_MISO", 57 PB5 (io) "PB5/I2C1_SMBA/SPI3_MOSI/I2S3_SD/TIM3_CH2/SPI1_MOSI", 58 PB6 (io) "PB6/I2C1_SCL/TIM4_CH1/USART1_TX", 59 PB7 (io) "PB7/I2C1_SDA/TIM4_CH2/USART1_RX", 60 BOOT0 (in), 61 PB8 (io) "PB8/TIM4_CH3/SDIO_D4/I2C1_SCL/CAN_RX", 62 PB9 (io) "PB9/TIM4_CH4/SDIO_D5/I2C1_SDA/CAN_TX"
part B pins: 1 VBAT (power), 12 VSSA (power), 13 VDDA (power), 18 VSS_4 (power), 19 VDD_4 (power), 31 VSS_1 (power), 32 VDD_1 (power), 47 VSS_2 (power), 48 VDD_2 (power), 63 VSS_3 (power), 64 VDD_3 (power)

## U_CPC1006N
designator U?, comment CPC1006N
Relay SSR 50mA 1.4V DC-IN 0.075A 60V DC-OUT 4-Pin SOP Tube; Manufacturer: IXYS; Throw Configuration: SPST; Load Current: 75mA; On-State Resistance: 10R; Isolation Voltage: 1.5kV; Manufacturer Part Number: CPC1006N; RoHS: Yes; Category: Solid State Relays; Stock 1: 2759; Pricing 1: 1=0.77000, 10=0.72000, 25=0.64000, 50=0.60800, 100=0.57600, 250=0.51200, 500=0.48000, 1000=0.44800, 5000=0.43200 (USD); Mount: Surface Mount; Case/Package: SOP; Number of Pins: 4; Min Operating Temperature: -40°C; Max Operating Temperature: 85°C; Packaging: Rail/Tube; Package Quantity: 100; Input Current: 50mA; Termination: Gull Wing; Relay Type: Relay; Max Output Voltage: 60V; Radiation Hardening: No; ComponentLink1URL: https://datasheet.ciiva.com/6569/cpc1006n-6569813.pdf?src-supplier=Digi-Key; ComponentLink1Description: https://datasheet.ciiva.com/6569/cpc1006n-6569813.pdf?src-supplier=Digi-Key; Supplier 1: Digi-Key; Supplier 2: Mouser; Supplier 3: Farnell; Supplier Part Number 1: CLA365-ND; Supplier Part Number 2: 849-CPC1006N; Supplier Part Number 3: 3595910
footprint CPC1006N
pins: 1 +CTRL, 2 -CTRL, 3 Load, 4 Load

## U_D_MAX14874ETC+
designator U?, comment MAX14874ETC+
MAX14874ETC+ IC RELAY/VALVE/MOTOR DRIVER TDFN; Manufacturer: Maxim; ComponentLink1Description: Datasheet; ComponentLink1URL: https://datasheets.maximintegrated.com/en/ds/MAX14874.pdf; Supplier 1: Digi-Key; Supplier Part Number 1: MAX14874ETC+-ND; Manufacturer Part Number: MAX14874ETC+
footprint 12 TDFN-EP (12 TDFN-EP TD1233-1, IPC Medium Density)
pins: 1 COM1, 2 M1 (out), 3 VDD (power), 4 EN1 (in), 5 IN1 (in), 6 IN2 (in), 7 nFAULT (out), 8 EN2 (in), 9 GND (power), 10 VDD (power), 11 M2 (out), 12 COM2, 13 EP (power)

## U_DS2438Z+
designator U?, comment DS2438Z+
IC MONITOR SMART BATTERY 8-SOIC; Manufacturer: Maxim; Max Supply Voltage: 10V; Min Supply Voltage: 2.4V; Number of Batteries: 6; Interface: Serial; Supplier 1: Digi-Key; Supplier Part Number 1: DS2438Z+-ND; Manufacturer Part Number: DS2438Z+; RoHS: Yes; Category: Battery Management; Stock: 1648; Pricing 1: 1=4.81000, 10=4.34300, 25=4.14160, 100=3.43430, 250=3.13132, 500=3.10606 (USD); Mount: Surface Mount; Case/Package: SOIC; Number of Pins: 8; Weight: 0.019048oz; Min Operating Temperature: -40°C; Max Operating Temperature: 85°C; Packaging: Rail/Tube; Package Quantity: 100; Type: Monitor; Length: 5mm; Height: 1.5mm; Width: 4mm; Radiation Hardening: No; Lead Free: Lead Free; REACH SVHC: No SVHC; ComponentLink1URL: https://datasheet.ciiva.com/26873/ds2438z-26873712.pdf?src-supplier=IIIC; ComponentLink1Description: https://datasheet.ciiva.com/26873/ds2438z-26873712.pdf?src-supplier=IIIC; ComponentLink2URL: https://datasheet.ciiva.com/29306/170015-da-01-en-ic-ds2417p-tsoc6-29306415.pdf?src-supplier=Conrad; ComponentLink2Description: https://datasheet.ciiva.com/29306/170015-da-01-en-ic-ds2417p-tsoc6-29306415.pdf?src-supplier=Conrad; ComponentLink3URL: https://datasheet.ciiva.com/1933/ds2438-1933062.pdf?src-supplier=Digi-Key; ComponentLink3Description: https://datasheet.ciiva.com/1933/ds2438-1933062.pdf?src-supplier=Digi-Key; ComponentLink4URL: https://datasheet.ciiva.com/14562/70127911-14562106.pdf?src-supplier=Allied+Electronics; ComponentLink4Description: https://datasheet.ciiva.com/14562/70127911-14562106.pdf?src-supplier=Allied+Electronics; ComponentLink5URL: https://datasheet.ciiva.com/3213/ds2438-3213501.pdf?src-supplier=Avnet; ComponentLink5Description: https://datasheet.ciiva.com/3213/ds2438-3213501.pdf?src-supplier=Avnet
footprint SO8 (SOIC8, SO8, PG-DSO8-44, R-PDSO8-G8)
pins: 1 GND, 2 VSENS+, 3 VSENS-, 4 VAD, 5 VDD, 6 NC, 7 NC, 8 DQ (io)

## U_G_74LVC1G08
designator U?, comment 74LVC1G08
IC GATE AND 1CH 2-INP 5-TSSOP; Manufacturer: Nexperia; Manufacturer Part Number: 74LVC1G08GW,125; ComponentLink1Description: Datasheet; ComponentLink1URL: https://assets.nexperia.com/documents/data-sheet/74LVC1G08.pdf; Supplier 1: Digi-Key; Supplier 2: Mouser; Supplier 3: Farnell; Supplier Part Number 1: 1727-2872-1-ND; Supplier Part Number 2: 771-74LVC1G08GW-G; Supplier Part Number 3: 1626473
footprint SOT353-1
part A pins: 1 B (in), 2 A (in), 4 Y (out)
part B pins: 3 GND (power), 5 VCC (power)

## U_G_74LVC1G11
designator U?, comment 74LVC1G11
IC GATE AND 1CH 3-INP 6-TSSOP; Manufacturer: NXP Semiconductors; Manufacturer Part Number: 74LVC1G11GW,125; Case/Package: SOT-363; ComponentLink1URL: https://datasheet.ciiva.com/26940/getdatasheetpartid-189984-26940189.pdf; ComponentLink1Description: https://datasheet.ciiva.com/26940/getdatasheetpartid-189984-26940189.pdf; ComponentLink2URL: https://datasheet.ciiva.com/8276/74lvc1g11-8276967.pdf; ComponentLink2Description: https://datasheet.ciiva.com/8276/74lvc1g11-8276967.pdf; ComponentLink3URL: https://datasheet.ciiva.com/16199/74lvc1g11-16199465.pdf; ComponentLink3Description: https://datasheet.ciiva.com/16199/74lvc1g11-16199465.pdf; ComponentLink4URL: https://datasheet.ciiva.com/1862/74lvc1g11-1862689.pdf; ComponentLink4Description: https://datasheet.ciiva.com/1862/74lvc1g11-1862689.pdf; ComponentLink5URL: https://datasheet.ciiva.com/1862/74lvc1g11-1862690.pdf; ComponentLink5Description: https://datasheet.ciiva.com/1862/74lvc1g11-1862690.pdf; ComponentLink6URL: https://datasheet.ciiva.com/1862/74lvc1g11-1862691.pdf; ComponentLink6Description: https://datasheet.ciiva.com/1862/74lvc1g11-1862691.pdf; ComponentLink7URL: https://datasheet.ciiva.com/8249/74lvc1g11-8249862.pdf; ComponentLink7Description: https://datasheet.ciiva.com/8249/74lvc1g11-8249862.pdf; Supplier 1: Digi-Key; Supplier 2: Mouser; Supplier 3: Farnell; Supplier Part Number 1: 1727-6065-1-ND; Supplier Part Number 2: 771-LVC1G11GW125; Supplier Part Number 3: 2463845
footprint SOT363 (SOT23, 6-Leads, Body 2.05x2.13mm, Pitch 0.65mm, IPC Medium Density)
part A pins: 1 A (in), 3 B (in), 4 Y (out), 6 C (in)
part B pins: 2 GND (power), 5 VCC (power)

## U_G_74LVC1G14
designator U?, comment 74LVC1G14
74LVC Series 5.5 V Surface Mount Single Schmitt Trigger Inverter - TSSOP-5; Manufacturer: Nexperia; Manufacturer Part Number: 74LVC1G14GW,125; RoHS: No; Stock 1: 70155; Pricing 1: 1=0.26000, 10=0.21700, 25=0.18120, 100=0.11490, 250=0.08868, 500=0.07556, 1000=0.05138 (USD); ComponentLink1URL: http://www.farnell.com/datasheets/2185284.pdf?src-supplier=Farnell; ComponentLink1Description: http://www.farnell.com/datasheets/2185284.pdf?src-supplier=Farnell; ComponentLink2URL: https://assets.nexperia.com/documents/data-sheet/74LVC1G14.pdf?src-supplier=Digi-Key; ComponentLink2Description: https://assets.nexperia.com/documents/data-sheet/74LVC1G14.pdf?src-supplier=Digi-Key; ComponentLink3URL: http://www.farnell.com/datasheets/2185284.pdf?src-supplier=Newark; ComponentLink3Description: http://www.farnell.com/datasheets/2185284.pdf?src-supplier=Newark; Supplier 1: Farnell; Supplier 2: Digi-Key; Supplier 3: Mouser; Supplier 4: Digi-Key; Category: Logic Gates; Pricing 4: 1=0.24000, 10=0.19800, 25=0.16600, 100=0.10510, 250=0.08108, 500=0.06912, 1000=0.04700 (USD); RoHS Compliant: Yes; Supplier 5: Mouser; Pricing 5: 1=0.26000, 10=0.21500, 50=0.21500, 100=0.10000, 1000=0.05400, 10000=0.04500 (USD); Supplier 6: Farnell; Pricing 6: 5=0.16000, 50=0.11800, 100=0.07580, 500=0.04040, 1500=0.03960 (GBP); Supplier Part Number 4: 1727-3072-1-ND; Supplier Part Number 5: 771-74LVC1G14GW-G; Supplier Part Number 6: 1631687
footprint SOT353-1
part A pins: 2 A (in), 4 Y (out)
part B pins: 3 GND (power), 5 VCC (power)

## U_G_74LVC1G17
designator U?, comment 74LVC1G17
IC BUFFER SCHMITT TRIGGER 5TSOP; Manufacturer: NXP Semiconductors; Manufacturer Part Number: 74LVC1G17GW,125; ComponentLink1URL: https://datasheet.ciiva.com/17290/74lvc1g17-17290989.pdf; ComponentLink1Description: https://datasheet.ciiva.com/17290/74lvc1g17-17290989.pdf; ComponentLink2URL: https://datasheet.ciiva.com/6623/74lvc1g17-6623199.pdf; ComponentLink2Description: https://datasheet.ciiva.com/6623/74lvc1g17-6623199.pdf; ComponentLink3URL: https://datasheet.ciiva.com/1833/74lvc1g17-1833130.pdf; ComponentLink3Description: https://datasheet.ciiva.com/1833/74lvc1g17-1833130.pdf; ComponentLink4URL: https://datasheet.ciiva.com/1833/74lvc1g17-1833128.pdf; ComponentLink4Description: https://datasheet.ciiva.com/1833/74lvc1g17-1833128.pdf; ComponentLink5URL: https://datasheet.ciiva.com/1833/74lvc1g17-1833129.pdf; ComponentLink5Description: https://datasheet.ciiva.com/1833/74lvc1g17-1833129.pdf; Supplier 1: Farnell; Supplier Part Number 1: 2438835; Case/Package: SOT535-1; ComponentLink6URL: https://datasheet.ciiva.com/16463/74lvc2g17-16463432.pdf; ComponentLink6Description: https://datasheet.ciiva.com/16463/74lvc2g17-16463432.pdf; ComponentLink7URL: https://datasheet.ciiva.com/6623/74lvc2g17-6623158.pdf; ComponentLink7Description: https://datasheet.ciiva.com/6623/74lvc2g17-6623158.pdf; ComponentLink8URL: https://datasheet.ciiva.com/1832/74lvc2g17-1832730.pdf; ComponentLink8Description: https://datasheet.ciiva.com/1832/74lvc2g17-1832730.pdf; ComponentLink9URL: https://datasheet.ciiva.com/1832/74lvc2g17-1832731.pdf; ComponentLink9Description: https://datasheet.ciiva.com/1832/74lvc2g17-1832731.pdf; ComponentLink10URL: https://datasheet.ciiva.com/1832/74lvc2g17-1832732.pdf; ComponentLink10Description: https://datasheet.ciiva.com/1832/74lvc2g17-1832732.pdf; ComponentLink11URL: https://datasheet.ciiva.com/16199/74lvc2g17-16199742.pdf; ComponentLink11Description: https://datasheet.ciiva.com/16199/74lvc2g17-16199742.pdf
footprint SOT353-1
part A pins: 2 A (in), 4 Y (out)
part B pins: 3 GND (power), 5 VCC (power)

## U_G_74LVC1G18
designator U?, comment 74LVC1G18
IC DEMULTIPLEXER 3-ST 6TSOP; Manufacturer: NXP Semiconductors; Manufacturer Part Number: 74LVC1G18GV,125; Supplier 1: Digi-Key; Supplier Part Number 1: 1727-6972-1-ND; Case/Package: TSOP; ComponentLink1URL: https://datasheet.ciiva.com/4807/74lvc1g18-188390-4807217.pdf; ComponentLink1Description: https://datasheet.ciiva.com/4807/74lvc1g18-188390-4807217.pdf; ComponentLink2URL: https://datasheet.ciiva.com/46390/1841955-46390534.pdf; ComponentLink2Description: https://datasheet.ciiva.com/46390/1841955-46390534.pdf; ComponentLink3URL: https://datasheet.ciiva.com/1890/74lvc1g18-1890772.pdf; ComponentLink3Description: https://datasheet.ciiva.com/1890/74lvc1g18-1890772.pdf; ComponentLink4URL: https://datasheet.ciiva.com/1890/74lvc1g18-1890773.pdf; ComponentLink4Description: https://datasheet.ciiva.com/1890/74lvc1g18-1890773.pdf; ComponentLink5URL: https://datasheet.ciiva.com/1890/74lvc1g18-1890774.pdf; ComponentLink5Description: https://datasheet.ciiva.com/1890/74lvc1g18-1890774.pdf; ComponentLink6URL: https://datasheet.ciiva.com/8252/74lvc1g18-8252269.pdf; ComponentLink6Description: https://datasheet.ciiva.com/8252/74lvc1g18-8252269.pdf; ComponentLink7URL: https://datasheet.ciiva.com/17392/74lvc1g18-17392229.pdf; ComponentLink7Description: https://datasheet.ciiva.com/17392/74lvc1g18-17392229.pdf
footprint SOT457
part A pins: 1 S (in), 3 A (in), 4 2Y (out), 6 1Y (out)
part B pins: 2 GND (power), 5 VCC (power)

## U_G_74LVC1G123DC
designator U?, comment 74LVC1G123
Manufacturer: NXP Semiconductors; Manufacturer Part Number: 74LVC1G123DC,125; Case/Package: VSSOP; ComponentLink1URL: https://datasheet.ciiva.com/4232/806074lvc1g123-4232470.pdf; ComponentLink1Description: https://datasheet.ciiva.com/4232/806074lvc1g123-4232470.pdf; ComponentLink2URL: https://datasheet.ciiva.com/8243/74lvc1g123-8243222.pdf; ComponentLink2Description: https://datasheet.ciiva.com/8243/74lvc1g123-8243222.pdf; ComponentLink3URL: https://datasheet.ciiva.com/46397/1846125-46397703.pdf; ComponentLink3Description: https://datasheet.ciiva.com/46397/1846125-46397703.pdf; Supplier 1: Digi-Key; Supplier 2: Mouser; Supplier 3: Farnell; Supplier Part Number 1: 1727-2066-1-ND; Supplier Part Number 2: 771-74LVC1G123DC125; Supplier Part Number 3: 3120805
footprint SOT765-1 (TSSOP, 8-Leads, Body 2.00x2.30mm, Pitch 0.50mm, IPC Medium Density)
part A pins: 1 nA (in), 2 B (in), 3 nCLR (in), 5 Q (out), 6 CEXT, 7 RCEXT
part B pins: 4 GND (power), 8 VCC (power)

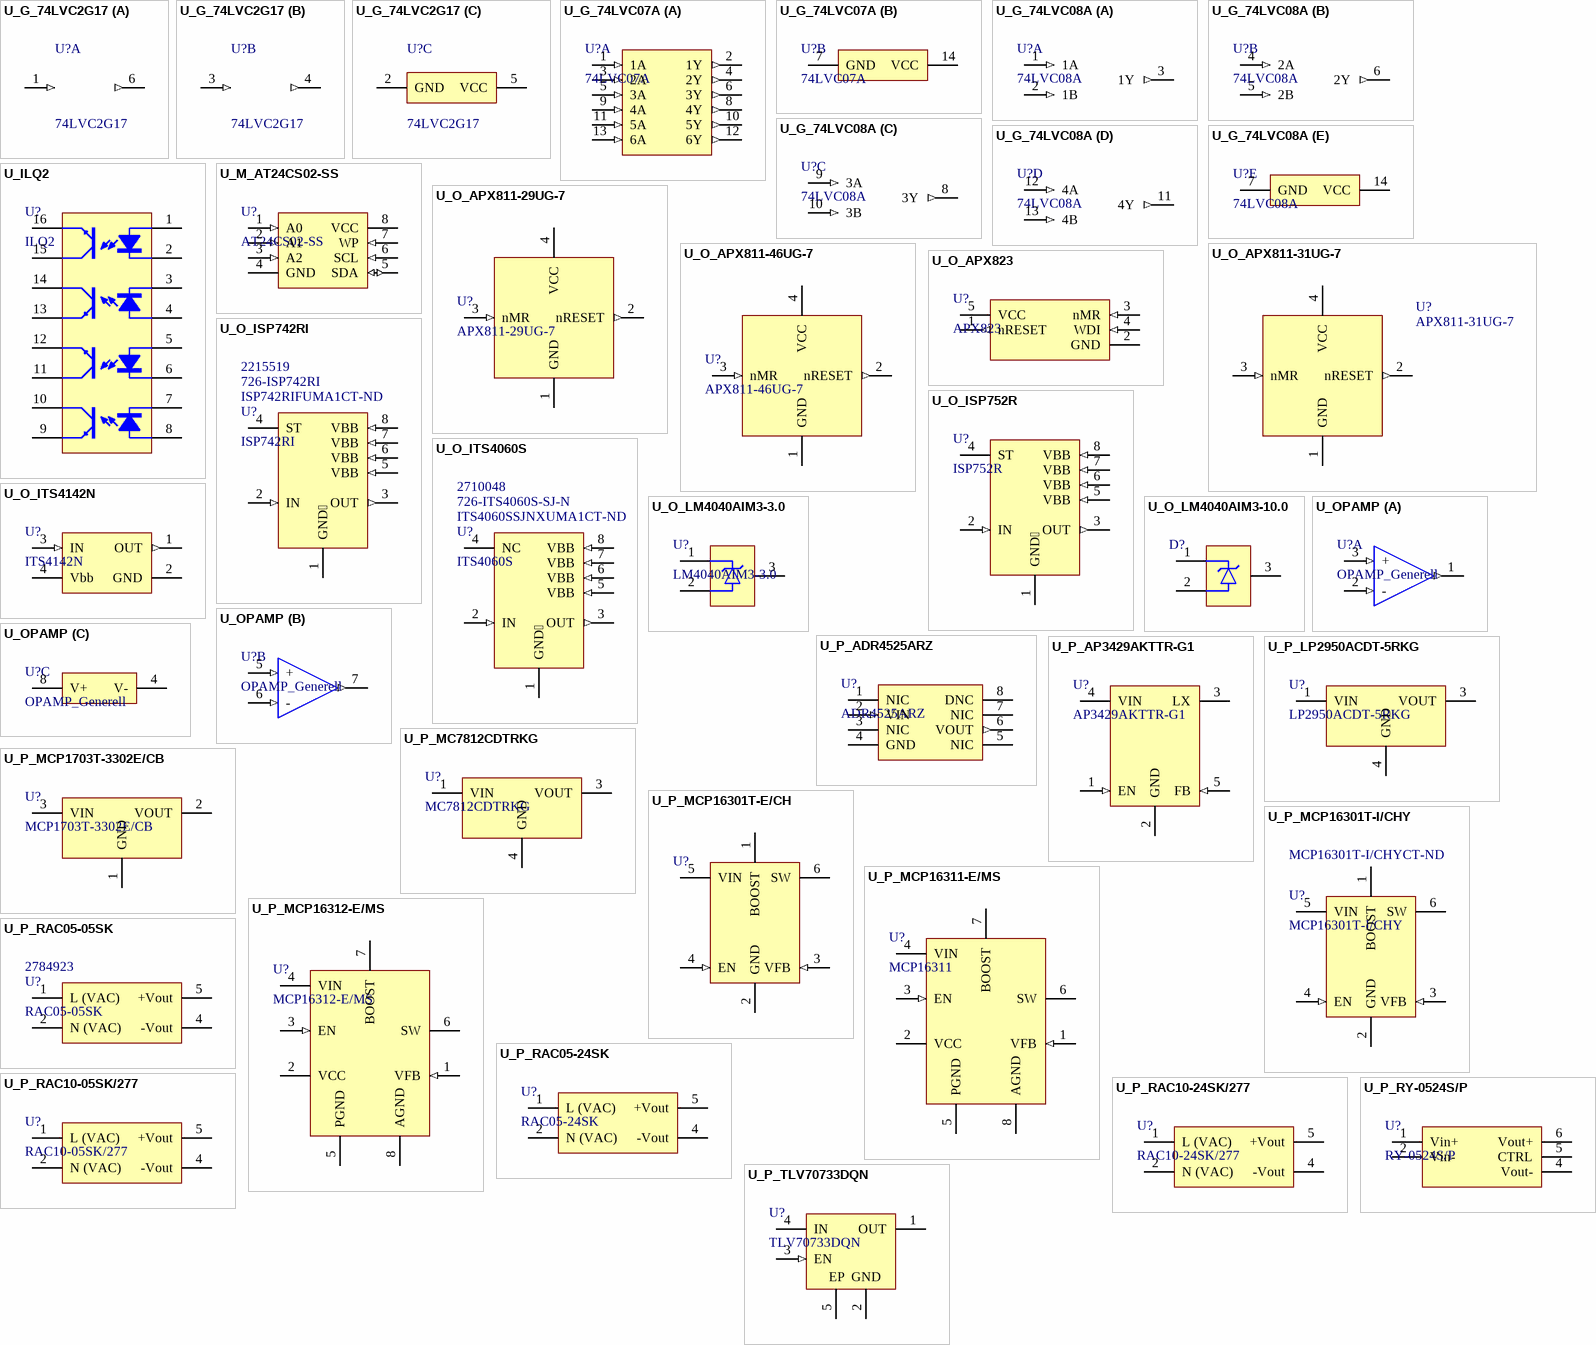
[diagram p5: symbols U_G_74LVC2G17 to U_P_TLV70733DQN]

## U_G_74LVC2G17
designator U?, comment 74LVC2G17
74LVC2G17GW/SC-88/REELR//; Manufacturer: NXP Semiconductors; Manufacturer Part Number: 74LVC2G17GW,125; ComponentLink1URL: https://datasheet.ciiva.com/1837/74lvc2g17-1837122.pdf; ComponentLink1Description: https://datasheet.ciiva.com/1837/74lvc2g17-1837122.pdf; ComponentLink2URL: https://datasheet.ciiva.com/17291/74lvc2g17-17291020.pdf; ComponentLink2Description: https://datasheet.ciiva.com/17291/74lvc2g17-17291020.pdf; ComponentLink3URL: https://datasheet.ciiva.com/16289/74lvc2g17-16289887.pdf; ComponentLink3Description: https://datasheet.ciiva.com/16289/74lvc2g17-16289887.pdf; ComponentLink4URL: https://datasheet.ciiva.com/26930/getdatasheetpartid-214923-26930485.pdf; ComponentLink4Description: https://datasheet.ciiva.com/26930/getdatasheetpartid-214923-26930485.pdf; ComponentLink5URL: https://datasheet.ciiva.com/1837/74lvc2g17-1837123.pdf; ComponentLink5Description: https://datasheet.ciiva.com/1837/74lvc2g17-1837123.pdf; ComponentLink6URL: https://datasheet.ciiva.com/1837/74lvc2g17-1837124.pdf; ComponentLink6Description: https://datasheet.ciiva.com/1837/74lvc2g17-1837124.pdf; ComponentLink7URL: https://datasheet.ciiva.com/16463/74lvc2g17-16463432.pdf; ComponentLink7Description: https://datasheet.ciiva.com/16463/74lvc2g17-16463432.pdf; ComponentLink8URL: https://datasheet.ciiva.com/6623/74lvc2g17-6623158.pdf; ComponentLink8Description: https://datasheet.ciiva.com/6623/74lvc2g17-6623158.pdf; ComponentLink9URL: https://datasheet.ciiva.com/1832/74lvc2g17-1832730.pdf; ComponentLink9Description: https://datasheet.ciiva.com/1832/74lvc2g17-1832730.pdf; ComponentLink10URL: https://datasheet.ciiva.com/1832/74lvc2g17-1832731.pdf; ComponentLink10Description: https://datasheet.ciiva.com/1832/74lvc2g17-1832731.pdf; ComponentLink11URL: https://datasheet.ciiva.com/1832/74lvc2g17-1832732.pdf; ComponentLink11Description: https://datasheet.ciiva.com/1832/74lvc2g17-1832732.pdf; ComponentLink12URL: https://datasheet.ciiva.com/16199/74lvc2g17-16199742.pdf; ComponentLink12Description: https://datasheet.ciiva.com/16199/74lvc2g17-16199742.pdf; Case/Package: TSSOP; Supplier 1: Digi-Key; Supplier 2: Mouser; Supplier 3: Farnell; Supplier Part Number 1: 1727-4218-1-ND; Supplier Part Number 2: 771-LVC2G17GW125; Supplier Part Number 3: 2463755; RoHS: Yes; Category: Logic Gates; Pricing 4: 1=0.37000, 10=0.30000, 25=0.25120, 100=0.15920, 250=0.12288, 500=0.10474, 1000=0.07122 (USD); RoHS Compliant: Yes; ComponentLink13URL: http://www.farnell.com/datasheets/78656.pdf?src-supplier=Farnell; ComponentLink13Description: http://www.farnell.com/datasheets/78656.pdf?src-supplier=Farnell; ComponentLink14URL: http://www.farnell.com/datasheets/2242061.pdf?src-supplier=Farnell; ComponentLink14Description: http://www.farnell.com/datasheets/2242061.pdf?src-supplier=Farnell; ComponentLink15URL: https://assets.nexperia.com/documents/data-sheet/74LVC2G17.pdf?src-supplier=Digi-Key; ComponentLink15Description: https://assets.nexperia.com/documents/data-sheet/74LVC2G17.pdf?src-supplier=Digi-Key
footprint SOT363 (SOT23, 6-Leads, Body 2.05x2.13mm, Pitch 0.65mm, IPC Medium Density)
part A pins: 1 A (in), 6 1Y (out)
part B pins: 3 2A (in), 4 2Y (out)
part C pins: 2 GND (power), 5 VCC (power)

## U_G_74LVC07A
designator U?, comment 74LVC07A
IC HEX BUFFER OD 14TSSOP; Manufacturer: Diodes; Manufacturer Part Number: 74LVC07AT14-13; Case/Package: TSSOP; ComponentLink1URL: https://datasheet.ciiva.com/30474/0900766b8115c2f6-30474846.pdf; ComponentLink1Description: https://datasheet.ciiva.com/30474/0900766b8115c2f6-30474846.pdf; ComponentLink2URL: https://datasheet.ciiva.com/1837/74lvc07a-1837131.pdf; ComponentLink2Description: https://datasheet.ciiva.com/1837/74lvc07a-1837131.pdf; ComponentLink3URL: https://datasheet.ciiva.com/16406/74lvc07a-16406619.pdf; ComponentLink3Description: https://datasheet.ciiva.com/16406/74lvc07a-16406619.pdf; ComponentLink4URL: https://datasheet.ciiva.com/1837/74lvc07a-1837132.pdf; ComponentLink4Description: https://datasheet.ciiva.com/1837/74lvc07a-1837132.pdf; ComponentLink5URL: https://datasheet.ciiva.com/1837/74lvc07a-1837133.pdf; ComponentLink5Description: https://datasheet.ciiva.com/1837/74lvc07a-1837133.pdf; ComponentLink6URL: https://datasheet.ciiva.com/8305/74lvc07a-8305743.pdf; ComponentLink6Description: https://datasheet.ciiva.com/8305/74lvc07a-8305743.pdf; ComponentLink7URL: https://datasheet.ciiva.com/12255/74lvc07a-12255247.pdf; ComponentLink7Description: https://datasheet.ciiva.com/12255/74lvc07a-12255247.pdf; Supplier 1: Digi-Key; Supplier 2: Mouser; Supplier Part Number 1: 74LVC07AT14-13DICT-ND; Supplier Part Number 2: 621-74LVC07AT14-13
footprint TSSOP-14 (TSOP, 14-Leads, Body 5.00x4.40mm, Pitch 0.65mm, IPC Medium Density)
part A pins: 1 1A (in), 2 1Y (out), 3 2A (in), 4 2Y (out), 5 3A (in), 6 3Y (out), 8 4Y (out), 9 4A (in), 10 5Y (out), 11 5A (in), 12 6Y (out), 13 6A (in)
part B pins: 7 GND (power), 14 VCC (power)

## U_G_74LVC08A
designator U?, comment 74LVC08A
IC GATE AND 4CH 2-INP 14SO; Manufacturer: Nexperia; Manufacturer Part Number: 74LVC08AD,118; Supplier 1: Digi-Key; RoHS: Yes; Stock 1: 8839; Pricing 1: 1=0.41000, 10=0.30600, 25=0.27600, 100=0.19060, 250=0.16052, 500=0.13042, 1000=0.10032 (USD); RoHS Compliant: Yes; ComponentLink1URL: http://www.farnell.com/datasheets/2052513.pdf?src-supplier=Farnell; ComponentLink1Description: http://www.farnell.com/datasheets/2052513.pdf?src-supplier=Farnell; ComponentLink2URL: https://assets.nexperia.com/documents/data-sheet/74LVC08A.pdf?src-supplier=Digi-Key; ComponentLink2Description: https://assets.nexperia.com/documents/data-sheet/74LVC08A.pdf?src-supplier=Digi-Key; Supplier 2: Mouser; Stock 2: 152; Pricing 2: 1=0.43000, 10=0.32300, 50=0.32300, 100=0.18400, 1000=0.10600, 10000=0.09500 (USD); Supplier 3: Farnell; Pricing 3: 2500=0.06070, 7500=0.05530 (GBP); Supplier Part Number 1: 1727-3078-1-ND; Supplier Part Number 2: 771-74LVC08AD-T; Supplier Part Number 3: 2438797
footprint SOP 14 (SOIC, 14-Leads, Body 8.65x3.80mm, Pitch 1.27mm, IPC Medium Density)
part A pins: 1 1A (in), 2 1B (in), 3 1Y (out)
part B pins: 4 2A (in), 5 2B (in), 6 2Y (out)
part C pins: 8 3Y (out), 9 3A (in), 10 3B (in)
part D pins: 11 4Y (out), 12 4A (in), 13 4B (in)
part E pins: 7 GND (power), 14 VCC (power)

## U_ILQ2
designator U?, comment ILQ2
OPTOISO 5.3KV 4CH TRANS 16-DIP; Manufacturer: Vishay Semiconductors; Number of Channels: 4; Collector Emitter Voltage (VCEO): 70V; Max Power Dissipation: 250mW; Forward Voltage: 1.65V; Output Current per Channel: 50mA; Max Collector Current: 400mA; Collector Emitter Saturation Voltage: 400mV; Max Input Current: 60mA; Current Transfer Ratio: 500%; Reverse Breakdown Voltage: 6V; Rise Time: 2.6s; Fall Time: 2.2s; Nominal Input Voltage: 1.16V; Max Input Voltage: 1.35V; Capacitance: 25pF; Voltage Rating (DC): 1.25V; Approvals: UL; Manufacturer Part Number: ILQ2; Stock 1: 3347; Pricing 1: 1=2,79000, 10=2,46800, 100=1,43280, 500=1,27360, 1000=1,09450, 2500=1,03480, 5000=1,01092, 10000=0,99500 (USD); RoHS: Yes; Mount: Through Hole,PCB; Case/Package: PDIP; Number of Pins: 16; Min Operating Temperature: -40°C; Max Operating Temperature: 100°C; Packaging: Rail/Tube; Package Quantity: 25; Max Output Voltage: 70V; Forward Current: 60mA; Number of Elements: 4; Power Dissipation: 250mW; Isolation Voltage: 5.3kV; Input Current: 60mA; Reverse Voltage (DC): 6V; Collector Emitter Breakdown Voltage: 70V; Radiation Hardening: No; Lead Free: Lead Free; REACH SVHC: Unknown; ComponentLink1URL: https://datasheet.ciiva.com/11771/0900766b80e3078c-11771968.pdf?src-supplier=RSComponents; ComponentLink1Description: https://datasheet.ciiva.com/11771/0900766b80e3078c-11771968.pdf?src-supplier=RSComponents; ComponentLink2URL: https://datasheet.ciiva.com/15118/getdatasheetpartid-122993-15118712.pdf?src-supplier=Verical; ComponentLink2Description: https://datasheet.ciiva.com/15118/getdatasheetpartid-122993-15118712.pdf?src-supplier=Verical; ComponentLink3URL: https://datasheet.ciiva.com/26251/ild1-26251862.pdf?src-supplier=Avnet+Europe; ComponentLink3Description: https://datasheet.ciiva.com/26251/ild1-26251862.pdf?src-supplier=Avnet+Europe; ComponentLink4URL: https://datasheet.ciiva.com/3305/il420-3305978.pdf?src-supplier=Avnet; ComponentLink4Description: https://datasheet.ciiva.com/3305/il420-3305978.pdf?src-supplier=Avnet; ComponentLink5URL: https://datasheet.ciiva.com/3305/il420-3305979.pdf?src-supplier=Avnet; ComponentLink5Description: https://datasheet.ciiva.com/3305/il420-3305979.pdf?src-supplier=Avnet; ComponentLink6URL: https://datasheet.ciiva.com/43484/viilq1-to-ilq2-e-43484856.pdf?src-supplier=Distrelec; ComponentLink6Description: https://datasheet.ciiva.com/43484/viilq1-to-ilq2-e-43484856.pdf?src-supplier=Distrelec; ComponentLink7URL: https://datasheet.ciiva.com/16210/ild1-16210334.pdf?src-supplier=Future+Electronics; ComponentLink7Description: https://datasheet.ciiva.com/16210/ild1-16210334.pdf?src-supplier=Future+Electronics; ComponentLink8URL: https://datasheet.ciiva.com/18410/70061470-18410319.pdf?src-supplier=Allied+Electronics; ComponentLink8Description: https://datasheet.ciiva.com/18410/70061470-18410319.pdf?src-supplier=Allied+Electronics; Supplier 1: Digi-Key; Supplier 2: Mouser; Supplier 3: Farnell; Supplier Part Number 1: 751-1330-5-ND; Supplier Part Number 2: 782-ILQ2; Supplier Part Number 3: 1469495
footprint DIL-16
pins: 1, 2, 3, 4, 5, 6, 7, 8, 9, 10, 11, 12, 13, 14, 15, 16

## U_M_AT24CS02-SS
designator U?, comment AT24CS02-SS
IC EEPROM 2KBIT 1MHZ 8SOIC; Manufacturer: Microchip / Atmel; Manufacturer Part Number: AT24CS02-SSHM-T; Supplier 1: Digi-Key; Supplier Part Number 1: AT24CS02-SSHM-TCT-ND; Case/Package: SOIC; ComponentLink1URL: https://datasheet.ciiva.com/15123/getdatasheetpartid-655244-15123992.pdf; ComponentLink1Description: https://datasheet.ciiva.com/15123/getdatasheetpartid-655244-15123992.pdf; ComponentLink2URL: https://datasheet.ciiva.com/6614/atmel-8815-seeprom-at24cs01-02-datasheet-6614647.pdf; ComponentLink2Description: https://datasheet.ciiva.com/6614/atmel-8815-seeprom-at24cs01-02-datasheet-6614647.pdf; ComponentLink3URL: https://datasheet.ciiva.com/6614/atmel-8815-seeprom-at24cs01-02-datasheet-6614649.pdf; ComponentLink3Description: https://datasheet.ciiva.com/6614/atmel-8815-seeprom-at24cs01-02-datasheet-6614649.pdf; ComponentLink4URL: https://datasheet.ciiva.com/6614/atmel-8815-seeprom-at24cs01-02-datasheet-6614651.pdf; ComponentLink4Description: https://datasheet.ciiva.com/6614/atmel-8815-seeprom-at24cs01-02-datasheet-6614651.pdf
footprint SO8 (SOIC8, SO8, PG-DSO8-44, R-PDSO8-G8)
pins: 1 A0 (in), 2 A1 (in), 3 A2 (in), 4 GND (power), 5 SDA (io), 6 SCL (in), 7 WP (in), 8 VCC (power)